# Altium footprint library PHODET_PDV-P8103.PcbLib: 1 footprints
Each footprint in its own frame and in the unit in brackets; x right, y up, seen from the top. Pads: shape width x height; smd on the part's side, far side on the other; paste and mask are expansions set on the pad; w line width, h text height; cw(c..) or ccw(c..) is an arc to the next point about the centre after c.
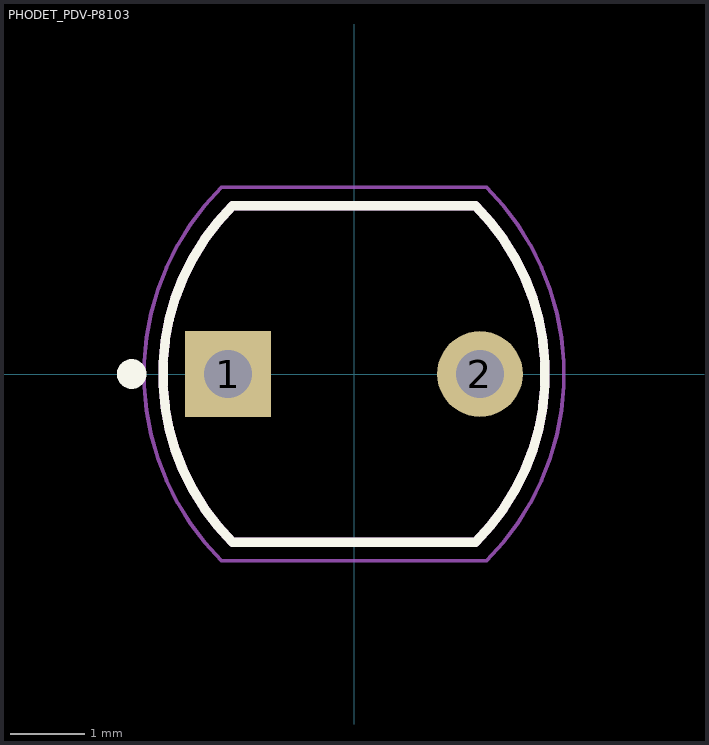
[diagram p0: the footprint, top view; thin cyan lines are the x and y axes]

## PHODET_PDV-P8103 [mm]
pads (2):
  rect 1.158x1.158 / inner round 1.158 / far side rect 1.158x1.158 hole 0.65: 1(-1.7,0)
  round 1.158 hole 0.65: 2(1.7,0)
Top Overlay:
  circle w0.2: c-3,0 r0.1
  lines w0.127: -1.64,-2.27 cw(c0.63,0) -1.64,2.27 1.64,2.27 cw(c-0.63,0) 1.64,-2.27 -1.64,-2.27
Assembly Top:
  circle w0.2: c-1.7,0 r0.1
  lines w0.127: -1.64,-2.27 cw(c0.63,0) -1.64,2.27 1.64,2.27 cw(c-0.63,0) 1.64,-2.27 -1.64,-2.27
Courtyard Top:
  lines w0.05: -1.79,-2.52 cw(c0.73,0) -1.79,2.52 1.79,2.52 cw(c-0.73,0) 1.79,-2.52 -1.79,-2.52
3D body "step_temp.STEP": height 2.38, standoff -26, extent -2.54,-2.145 2.54,2.145